# EAGLE library part RFM69CW (library hoperf)
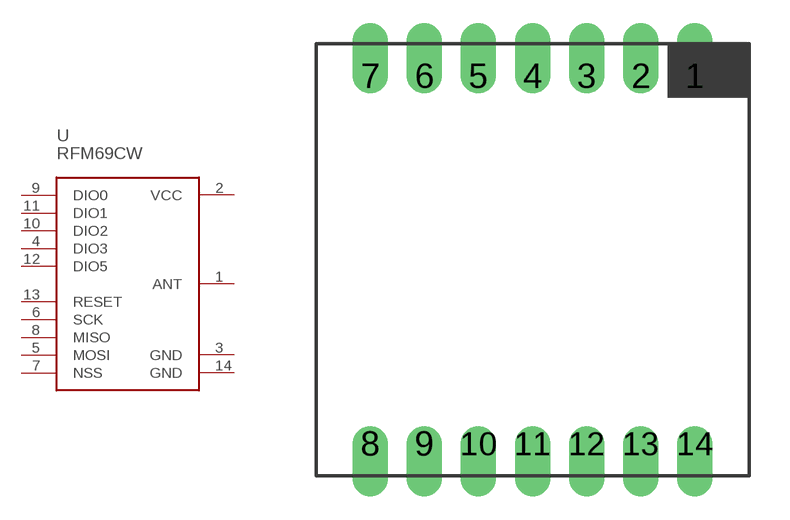
[diagram p2: symbol with the pads of MODULE_16X16_14PIN; footprint MODULE_16X16_14PIN]

Designator prefix -

## RFM69CW  [MODULE_16X16_14PIN]
1  ANT
2  VCC
3  GND
4  DIO3
5  MOSI
6  SCK
7  NSS
8  MISO
9  DIO0
10  DIO2
11  DIO1
12  DIO5
13  RESET
14  GND

## Footprint MODULE_16X16_14PIN (pad centres in mm)
drill 0.8 offset: 1 6,6.8; 2 4,6.8; 3 2,6.8; 4 0,6.8; 5 -2,6.8; 6 -4,6.8; 7 -6,6.8; 8 -6,-6.8; 9 -4,-6.8; 10 -2,-6.8; 11 0,-6.8; 12 2,-6.8; 13 4,-6.8; 14 6,-6.8